# EAGLE library part RFM95W (library angrypig7-IC)
RFM95/96/97/98
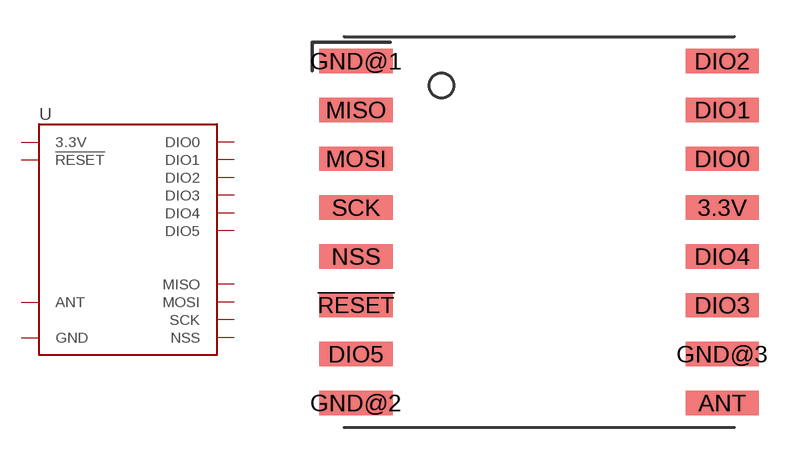
[diagram p0: symbol with the pads of RFM95/96/97/98W; footprint RFM95/96/97/98W]

Designator prefix U

## RFM95W (PROD_ID: IC-13959)  [RFM95/96/97/98W]
3.3V  3.3V
!RESET  !RESET
ANT  ANT
DIO0  DIO0
DIO1  DIO1
DIO2  DIO2
DIO3  DIO3
DIO4  DIO4
DIO5  DIO5
GND@1  GND
GND@2  GND
GND@3  GND
MISO  MISO
MOSI  MOSI
NSS  NSS
SCK  SCK

## Footprint RFM95/96/97/98W (pad centres in mm)
smd 3 x 1: 3.3V 7.5,1; !RESET -7.5,-3; ANT 7.5,-7; DIO0 7.5,3; DIO1 7.5,5; DIO2 7.5,7; DIO3 7.5,-3; DIO4 7.5,-1; DIO5 -7.5,-5; GND@1 -7.5,7; GND@2 -7.5,-7; GND@3 7.5,-5; MISO -7.5,5; MOSI -7.5,3; NSS -7.5,-1; SCK -7.5,1